# Altium footprint library adafruit.PCBLIB: 643 footprints (part 25 of 41)
Each footprint in its own frame and in the unit in brackets; x right, y up, seen from the top. Pads: shape width x height; smd on the part's side, far side on the other; paste and mask are expansions set on the pad; w line width, h text height; cw(c..) or ccw(c..) is an arc to the next point about the centre after c.
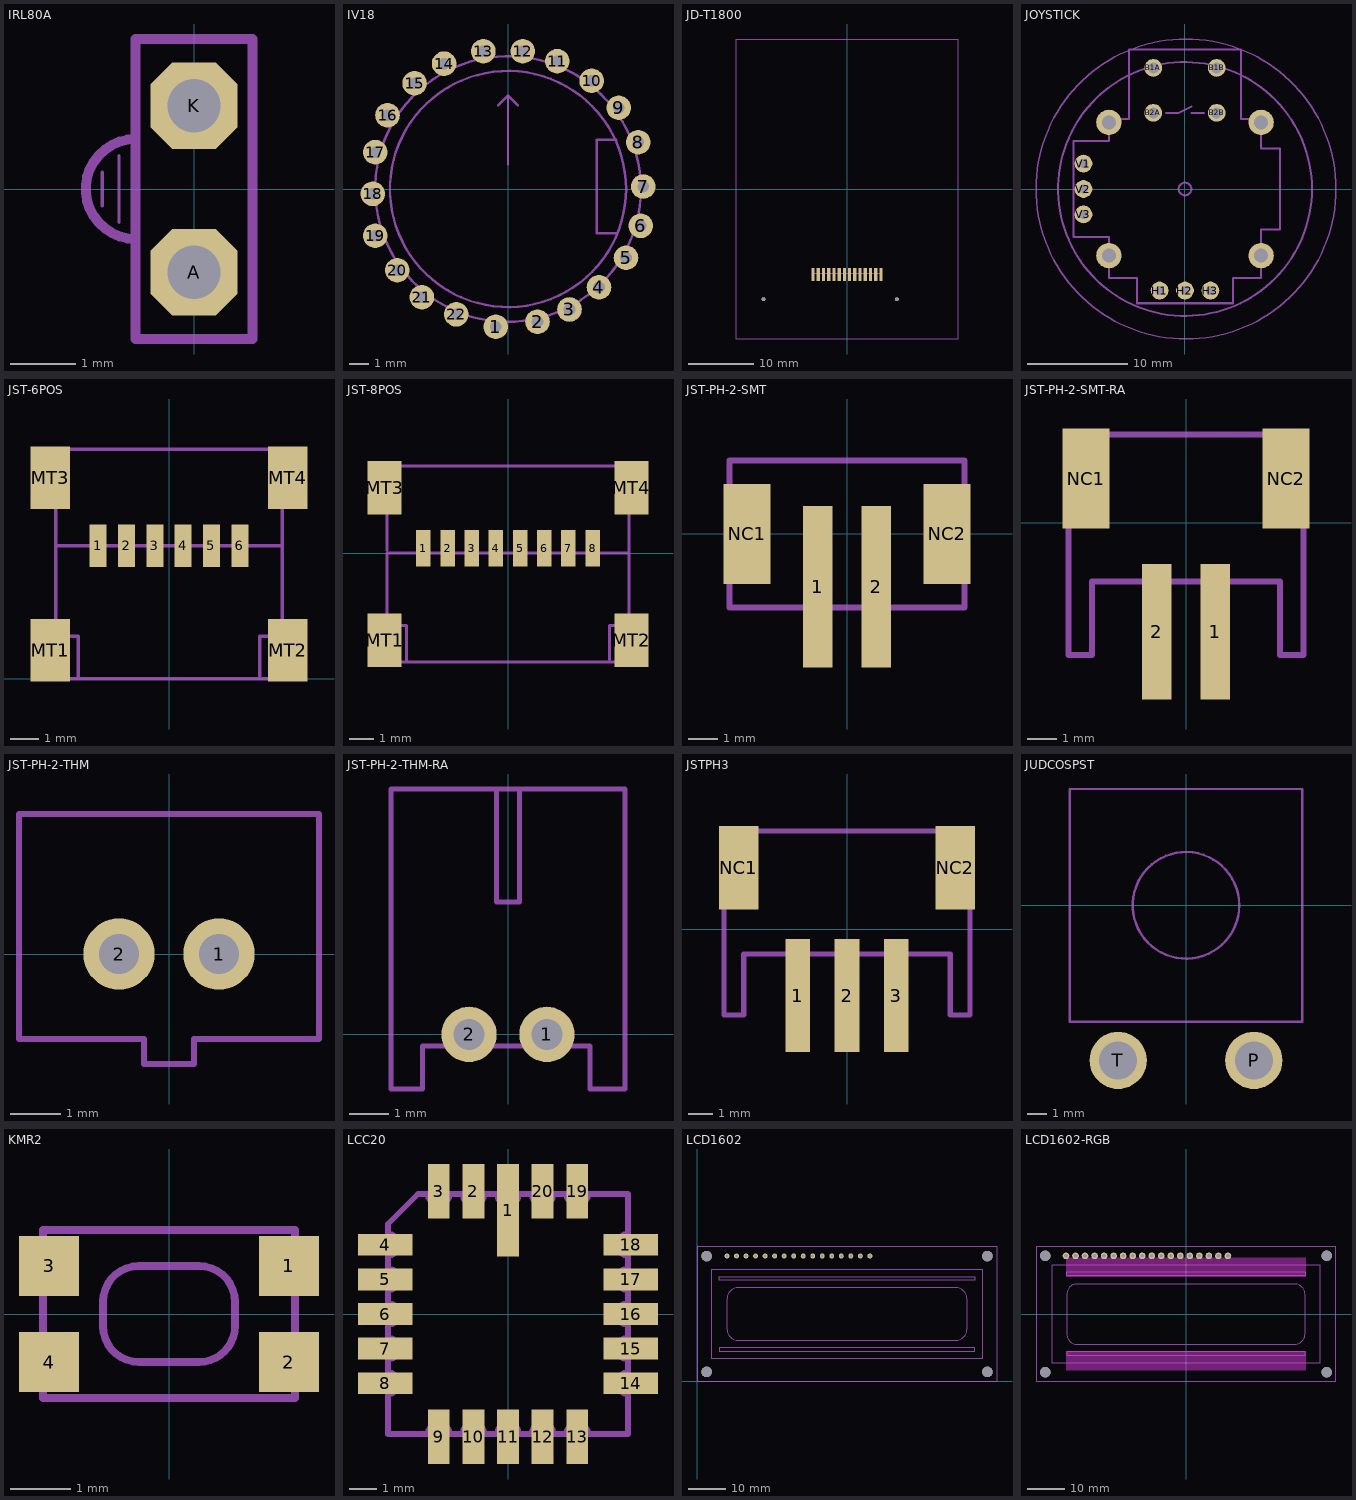
[diagram p24: the footprints below, top view; thin cyan lines are the x and y axes]

## IRL80A [mil]
pads (2):
  oct 52x52 / inner round 48.04 / far side oct 52x52 hole 32: A(0,-50) K(0,50)
tDocu:
  lines w6: -35,-70 -35,-30 ; -35,30 -35,70 ; 35,-70 35,-25 ; 35,30 35,70
tPlace:
  lines w2: -55,-10 -55,10 ; -45,-20 -45,20
  lines w6: -35,-70 -35,-90 35,-90 35,-70 ; -35,70 -35,90 35,90 35,70 ; 35,-25 35,30 ; -35,-30 -35,30 ccw(c-35,0) -35,-30

## IV18 [mil]
pads (22):
  round 50 hole 23.62: 1(-25,-280) 2(60,-270) 3(125,-245) 4(185,-200) 5(240,-140) 6(270,-75) 7(275,5) 8(265,95) 9(225,165) 10(170,220) 11(100,260) 12(30,280) 13(-50,280) 14(-130,255) 15(-190,215) 16(-245,150) 17(-270,75) 18(-275,-10) 19(-270,-95) 20(-225,-165) 21(-175,-220) 22(-105,-255)
tPlace:
  circle w5: c0,0 r240.05
  circle w5: c0,0 r270
  lines w5: -20,170 0,190 ; 0,50 0,190 ; 20,170 0,190 ; 220,-90 180,-90 180,100 220,100
  text "display" at 160,-80 h27.2
  text "nc" at 210,-20 h27.2
  text "u" at -50,60 h27.2
  text "p" at -50,120 h27.2

## JD-T1800 [mm]
pads (16):
  rect 0.5x2 smd: 1(5.2,-13.1) 2(4.4,-13.1) 3(3.6,-13.1) 4(2.8,-13.1) 5(2,-13.1) 6(1.2,-13.1) 7(0.4,-13.1) 8(-0.4,-13.1) 9(-1.2,-13.1) 10(-2,-13.1) 11(-2.8,-13.1) 12(-3.6,-13.1) 13(-4.4,-13.1) 14(-5.2,-13.1)
  round 0.6 hole 0.6 unplated: MH1(-12.8,-16.9) MH2(7.65,-16.9)
tPlace:
  lines w0.127: -5.2,-12.9 5.2,-12.9 ; -17,-23 17,-23 17,23 -17,23 -17,-23

## JOYSTICK [mil]
pads (14):
  round 70 hole 43.31: B1A(-125,477.17) B1B(125,477.17) B2A(-125,300) B2B(125,300)
  round 70 hole 35: H1(-100,-400) H2(0,-400) H3(100,-400) V1(-400,100) V2(-400,0) V3(-400,-100)
  round 100 hole 55: MOUNT1(-300,262.5) MOUNT2(-300,-262.5) MOUNT3(300,-262.5) MOUNT4(300,262.5)
tDocu:
  circle w8: c0,0 r500
  circle w5: c3.94,0 r590.88
  lines w8: -75,300 -25,300 25,325 ; 25,300 75,300
tPlace:
  circle w8: c0,0 r25
  lines w8: -440,-190 -300,-190 -300,-350 -190,-350 -190,-450 190,-450 190,-350 300,-350 300,-160 375,-160 375,160 300,160 300,275 220,275 220,550 -220,550 -220,275 -300,275 -300,190 -440,190 -440,-190

## JST-6POS [mm]
pads (10):
  rect 0.6x1.5 smd: 1(-2.5,4.7) 2(-1.5,4.7) 3(-0.5,4.7) 4(0.5,4.7) 5(1.5,4.7) 6(2.5,4.7)
  rect 1.4x2.2 smd: MT1(-4.2,1) MT2(4.2,1) MT3(-4.2,7.1) MT4(4.2,7.1)
tPlace:
  lines w0.127: 3.2,0.1 3.2,1.5 4,1.5 ; -4,1.5 -4,0 -3.2,0 ; -4,1.5 -4,4.7 ; -4,1.5 -3.2,1.5 -3.2,0 ; -4,4.7 4,4.7 ; -4,4.7 -4,8.1 4,8.1 4,4.7 ; -3.2,0 4,0 4,1.5 ; 4,1.5 4,4.7
  text "H" at -0.4,1.5 h1.08
  text "V" at -0.5,6.3 h1.08

## JST-8POS [mil]
pads (12):
  rect 23.62x59.06 smd: 1(-137.8,7.87) 2(-98.43,7.87) 3(-59.06,7.87) 4(-19.69,7.87) 5(19.69,7.87) 6(59.06,7.87) 7(98.43,7.87) 8(137.8,7.87)
  rect 55.12x86.61 smd: MT1(-200.79,-141.73) MT2(200.79,-141.73) MT3(-200.79,106.3) MT4(200.79,106.3)
tPlace:
  lines w5: -196.85,3.94 -196.85,141.73 196.85,141.73 196.85,0 ; 165.35,-173.23 165.35,-118.11 196.85,-118.11 ; -196.85,-118.11 -196.85,-177.17 -165.35,-177.17 ; -196.85,-118.11 -196.85,0 196.85,0 ; -196.85,-118.11 -165.35,-118.11 -165.35,-177.17 ; -165.35,-177.17 196.85,-177.17 196.85,-118.11 ; 196.85,-118.11 196.85,0
  text "V" at -11.81,62.99 h42.5
  text "H" at -11.81,-118.11 h42.5

## JST-PH-2-SMT [mm]
pads (4):
  rect 1x5.5 smd: 1(-1,-1.8) 2(1,-1.8)
  rect 1.6x3.4 smd: NC1(-3.4,0) NC2(3.4,0)
tDocu:
  lines w0.203: -4,-2.5 -4,2.5 4,2.5 4,-2.5 -4,-2.5
tPlace:
  lines w0.127: -4,-0.5 -4,-2.5 -1.75,-2.5 ; -2.25,2.5 2.25,2.5 ; 1.75,-2.5 4,-2.5 4,-0.5
  text "+" at -2.914,-6.096 h2.2
  text "-" at 2.271,-6.096 h2.2

## JST-PH-2-SMT-RA [mm]
pads (4):
  rect 1x4.6 smd: 1(1,-3.7) 2(-1,-3.7)
  rect 1.6x3.4 smd: NC1(-3.4,1.5) NC2(3.4,1.5)
tDocu:
  lines w0.203: -4,-4.5 -4,3 4,3 4,-4.5 3.2,-4.5 3.2,-2 -3.2,-2 -3.2,-4.5 -4,-4.5
tPlace:
  lines w0.127: -4,-0.5 -4,-4.5 -3.15,-4.5 -3.15,-2 -1.75,-2 ; -2.25,3 2.25,3 ; 1.75,-2 3.15,-2 3.15,-4.5 4,-4.5 4,-0.5
  text "+" at 2.286,-6.096 h2.2
  text "-" at -3.429,-6.096 h2.2

## JST-PH-2-THM [mil]
pads (2):
  round 56 hole 31.5: 1(39.37,0) 2(-39.37,0)
tPlace:
  lines w5: -118.11,-66.93 -19.69,-66.93 -19.69,-86.61 19.69,-86.61 19.69,-66.93 118.11,-66.93 118.11,110.24 -118.11,110.24 -118.11,-66.93
  text "+" at 160,30 h42.5
  text "-" at -130,30 h42.5

## JST-PH-2-THM-RA [mil]
pads (2):
  round 56 hole 31.5: 1(39.37,0) 2(-39.37,0)
tDocu:
  lines w5: -86.61,-55.12 -118.11,-55.12 -118.11,248.03 118.11,248.03 118.11,-55.12 86.61,-55.12
tPlace:
  lines w5: -86.61,-55.12 -86.61,-11.81 82.68,-11.81 82.68,-55.12 86.61,-55.12 ; -11.81,248.03 -11.81,133.86 11.81,133.86 11.81,248.03
  text "+" at 19.13,-82.52 h86.8
  text "-" at -56.26,-74.65 h86.8

## JSTPH3 [mm]
pads (5):
  rect 1x4.6 smd: 1(-2,-2.7) 2(0,-2.7) 3(2,-2.7)
  rect 1.6x3.4 smd: NC1(-4.4,2.5) NC2(4.4,2.5)
tDocu:
  lines w0.203: -5,-3.5 -5,4 5,4 5,-3.5 4.2,-3.5 4.2,-1 -4.2,-1 -4.2,-3.5 -5,-3.5
tPlace:
  lines w0.127: -5,0.5 -5,-3.5 -4.15,-3.5 -4.15,-1 -2.75,-1 ; -3.25,4 3.25,4 ; 0.75,-1 4.15,-1 4.15,-3.5 5,-3.5 5,0.5

## JUDCOSPST [mm]
pads (2):
  round 3 hole 2: P(3.556,-8.128) T(-3.556,-8.128)
tPlace:
  circle w0.127: c0,0 r2.794
  lines w0.127: -6.096,-6.096 6.096,-6.096 6.096,6.096 -6.096,6.096 -6.096,-6.096

## KMR2 [mm]
pads (4):
  rect 1x1 smd: 1(2,0.8) 2(2,-0.8) 3(-2,0.8) 4(-2,-0.8)
tPlace:
  lines w0.127: -2.1,-1.4 2.1,-1.4 2.1,1.4 -2.1,1.4 -2.1,-1.4 ; -1.1,-0.2 ccw(c-0.5,-0.2) -0.5,-0.8 0.5,-0.8 ccw(c0.5,-0.2) 1.1,-0.2 1.1,0.2 ccw(c0.5,0.2) 0.5,0.8 -0.5,0.8 ccw(c-0.5,0.2) -1.1,0.2 -1.1,-0.2

## LCC20 [mil]
pads (20):
  rect 31.5x133.86 smd: 1(0,149.61)
  rect 31.5x78.74 smd: 2(-50,177.17) 3(-100,177.17) 9(-100,-177.17) 10(-50,-177.17) 11(0,-177.17) 12(50,-177.17) 13(100,-177.17) 19(100,177.17) 20(50,177.17)
  rect 78.74x31.5 smd: 4(-177.17,100) 5(-177.17,50) 6(-177.17,0) 7(-177.17,-50) 8(-177.17,-100) 14(177.17,-100) 15(177.17,-50) 16(177.17,0) 17(177.17,50) 18(177.17,100)
tDocu:
  lines w8: -173.23,-173.62 -173.23,-173.23 ; -173.23,-115.75 -173.23,-173.23 ; -173.23,-84.25 -173.23,-65.75 ; -173.23,-34.25 -173.23,-15.75 ; -173.23,15.75 -173.23,34.25 ; -173.23,65.75 -173.23,84.25 ; -173.23,115.75 -173.23,129.92 -129.92,173.23 -115.75,173.23 ; -173.17,-115.75 ccw(c-173.17,-100) -173.17,-84.25 ; -173.17,-65.75 ccw(c-173.17,-50) -173.17,-34.25 ; -173.17,-15.75 ccw(c-173.17,0) -173.17,15.75 ; -173.17,34.25 ccw(c-173.17,50) -173.17,65.75 ; -173.17,84.25 ccw(c-173.17,100) -173.17,115.75 ; -115.75,-173.23 -173.23,-173.23 ; -115.75,-173.17 cw(c-100,-173.17) -84.25,-173.17 ; -115.75,173.17 ccw(c-100,173.17) -84.25,173.17 ; -84.25,-173.23 -65.75,-173.23 ; -84.25,173.23 -65.75,173.23 ; -65.75,-173.17 cw(c-50,-173.17) -34.25,-173.17 ; -65.75,173.17 ccw(c-50,173.17) -34.25,173.17 ; -34.25,-173.23 -15.75,-173.23 ; -34.25,173.23 -15.75,173.23 ; -15.75,-173.17 cw(c0,-173.17) 15.75,-173.17 ; -15.75,173.17 ccw(c0,173.17) 15.75,173.17 ; 15.75,-173.23 34.25,-173.23 ; 15.75,173.23 34.25,173.23 ; 34.25,-173.17 cw(c50,-173.17) 65.75,-173.17 ; 34.25,173.17 ccw(c50,173.17) 65.75,173.17 ; 65.75,-173.23 84.25,-173.23 ; 65.75,173.23 84.25,173.23 ; 84.25,-173.17 cw(c100,-173.17) 115.75,-173.17 ; 84.25,173.17 ccw(c100,173.17) 115.75,173.17 ; 115.75,-173.23 173.23,-173.23 173.23,-115.75 ; 115.75,173.23 173.23,173.23 173.23,115.75 ; 173.17,-115.75 cw(c173.17,-100) 173.17,-84.25 ; 173.17,-65.75 cw(c173.17,-50) 173.17,-34.25 ; 173.17,-15.75 cw(c173.17,0) 173.17,15.75 ; 173.17,34.25 cw(c173.17,50) 173.17,65.75 ; 173.17,84.25 cw(c173.17,100) 173.17,115.75 ; 173.23,-84.25 173.23,-65.75 ; 173.23,-34.25 173.23,-15.75 ; 173.23,15.75 173.23,34.25 ; 173.23,65.75 173.23,84.25

## LCD1602 [mil]
pads (20):
  round 51.5 hole 31.5: 1(314.96,1317.32) 2(414.96,1317.32) 3(514.96,1317.32) 4(614.96,1317.32) 5(714.96,1317.32) 6(814.96,1317.32) 7(914.96,1317.32) 8(1014.96,1317.32) 9(1114.96,1317.32) 10(1214.96,1317.32) 11(1314.96,1317.32) 12(1414.96,1317.32) 13(1514.96,1317.32) 14(1614.96,1317.32) 15(1714.96,1317.32) 16(1814.96,1317.32)
  round 110.24 hole 110.24 unplated: MH1(100,100) MH2(100,1317.32) MH3(3049.61,1317.32) MH4(3049.61,100)
tPlace:
  lines w5: 0,0 3149.61,0 3149.61,1417.32 0,1417.32 0,0 ; 157.48,236.22 2992.13,236.22 2992.13,1181.1 157.48,1181.1 157.48,236.22 ; 236.22,314.96 2913.39,314.96 2913.39,354.33 236.22,354.33 236.22,314.96 ; 236.22,1062.99 2913.39,1062.99 2913.39,1102.36 236.22,1102.36 236.22,1062.99 ; 314.96,551.18 314.96,866.14 cw(c433.07,866.14) 433.07,984.25 2716.54,984.25 cw(c2716.54,866.14) 2834.65,866.14 2834.65,551.18 cw(c2716.54,551.18) 2716.54,433.07 433.07,433.07 cw(c433.07,551.18) 314.96,551.18

## LCD1602-RGB [mil]
pads (22):
  round 70 hole 39.37: 1(-1259.84,610.24) 2(-1159.84,610.24) 3(-1059.84,610.24) 4(-959.84,610.24) 5(-859.84,610.24) 6(-759.84,610.24) 7(-659.84,610.24) 8(-559.84,610.24) 9(-459.84,610.24) 10(-359.84,610.24) 11(-259.84,610.24) 12(-159.84,610.24) 13(-59.84,610.24) 14(40.16,610.24) 15(140.16,610.24) 16(240.16,610.24) 17(340.16,610.24) 18(440.16,610.24)
  round 110.24 hole 110.24 unplated: MH1(-1476.38,-610.24) MH2(-1476.38,610.24) MH3(1476.38,610.24) MH4(1476.38,-610.24)
Top keep-out:
  region: -1259.84,393.7 -1259.84,590.55 1259.84,590.55 1259.84,393.7
  region: -1259.84,-590.55 -1259.84,-393.7 1259.84,-393.7 1259.84,-590.55
tPlace:
  lines w5: -1574.8,-708.66 1574.8,-708.66 1574.8,708.66 -1574.8,708.66 -1574.8,-708.66 ; -1403.54,-517.72 1403.54,-517.72 1403.54,517.72 -1403.54,517.72 -1403.54,-517.72 ; -1250,-435.04 1250,-435.04 1250,-395.67 -1250,-395.67 -1250,-435.04 ; -1250,-198.82 -1250,196.14 cw(c-1144.41,208.66) -1156.93,314.25 1146.54,314.25 cw(c1139.21,203.47) 1250,196.14 1250,-198.82 cw(c1139.21,-206.15) 1146.54,-316.93 -1156.93,-316.93 cw(c-1144.41,-211.34) -1250,-198.82 ; -1250,402.99 1250,402.99 1250,442.36 -1250,442.36 -1250,402.99